# EAGLE library part LM2623 (library Power > Switching Controllers)
The LM2623 is a high-efficiency, general-purpose, step-up DC-DC switching regulator for batterypowered and low input voltage systems. It accepts an input voltage between 0.8 V and 14 V and converts it into a regulated output voltage between 1.24 V and 14 V. Efficiencies up to 90% are achievable with the LM2623.
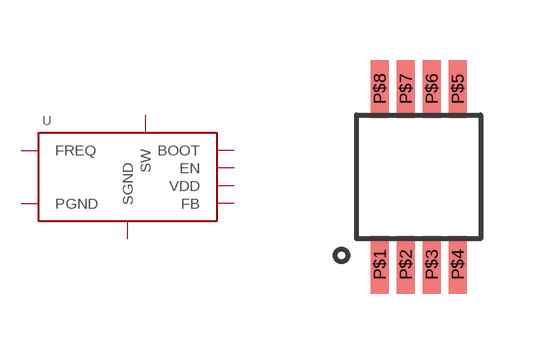
[diagram p4: symbol with the pads of DGK_(S-PDSO-G8); footprint DGK_(S-PDSO-G8)]

Designator prefix U

## LM2623  [DGK_(S-PDSO-G8)]
P$1  PGND
P$2  EN
P$3  FREQ
P$4  FB
P$5  SGND
P$6  VDD
P$7  BOOT
P$8  SW

## Footprint DGK_(S-PDSO-G8) (pad centres in mm)
Plastic small outline package
smd 0.45 x 1.45: P$1 -0.975,-2.2; P$2 -0.325,-2.2; P$3 0.325,-2.2; P$4 0.975,-2.2; P$5 0.975,2.2; P$6 0.325,2.2; P$7 -0.325,2.2; P$8 -0.975,2.2